# Altium schematic symbol library BQ76PL102.SchLib: 1 symbol
Pins are listed as number, name and electrical type; pins without a type are passive.

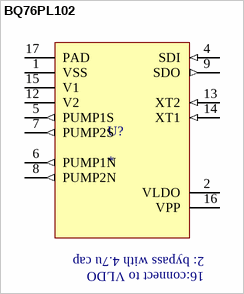
[diagram p0: symbol BQ76PL102]

## BQ76PL102
designator U?
IC BATTERY MGMT CTRLR 16QFN; digikey: 296-27731-1-ND; mouser: 595-BQ76PL102RGTT
footprint QFN50P300X300X100-16N (QFN, 16-Leads, Body 3.2x3.2mm (max), Pitch 0.50mm, IPC Medium Density)
pins: 1 VSS (power), 2 VLDO (power), 4 SDI (in), 5 PUMP1S (out), 6 PUMP1N (out), 7 PUMP2S (out), 8 PUMP2N (out), 9 SDO (out), 12 V2 (power), 13 XT2 (in), 14 XT1 (in), 15 V1, 16 VPP (power), 17 PAD
text: 2: bypass with 4.7u cap; 16:connect to VLDO